# Altium schematic symbol library SN74141.SchLib: 1 symbol
Pins are listed as number, name and electrical type; pins without a type are passive.

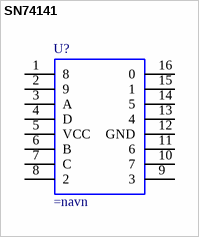
[diagram p0: symbol SN74141]

## SN74141
designator U?
pins: 1 8, 2 9, 3 A, 4 D, 5 VCC (power), 6 B, 7 C, 8 2, 9 3, 10 7, 11 6, 12 GND, 13 4, 14 5, 15 1, 16 0